# Altium footprint library SS12D10L3.PcbLib: 1 footprints
Each footprint in its own frame and in the unit in brackets; x right, y up, seen from the top. Pads: shape width x height; smd on the part's side, far side on the other; paste and mask are expansions set on the pad; w line width, h text height; cw(c..) or ccw(c..) is an arc to the next point about the centre after c.
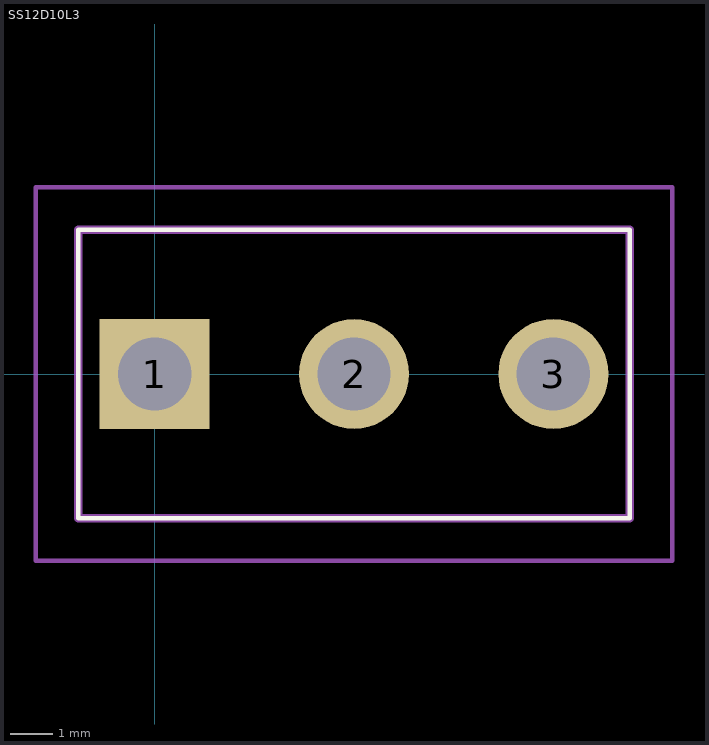
[diagram p0: the footprint, top view; thin cyan lines are the x and y axes]

## SS12D10L3 [mm]
pads (3):
  rect 2.595x2.595 hole 1.73: 1(0,0)
  round 2.595 hole 1.73: 2(4.7,0) 3(9.4,0)
Top Overlay:
  lines w0.1: -1.8,-3.4 11.2,-3.4 11.2,3.4 -1.8,3.4 -1.8,-3.4
Mechanical 15:
  lines w0.2: -1.8,-3.4 11.2,-3.4 11.2,3.4 -1.8,3.4 -1.8,-3.4
Mechanical 20:
  lines w0.1: -2.8,-4.4 12.2,-4.4 12.2,4.4 -2.8,4.4 -2.8,-4.4